# Altium footprint library International Rectifier Footprints.PcbLib: 101 footprints (part 2 of 7)
Each footprint in its own frame and in the unit in brackets; x right, y up, seen from the top. Pads: shape width x height; smd on the part's side, far side on the other; paste and mask are expansions set on the pad; w line width, h text height; cw(c..) or ccw(c..) is an arc to the next point about the centre after c.
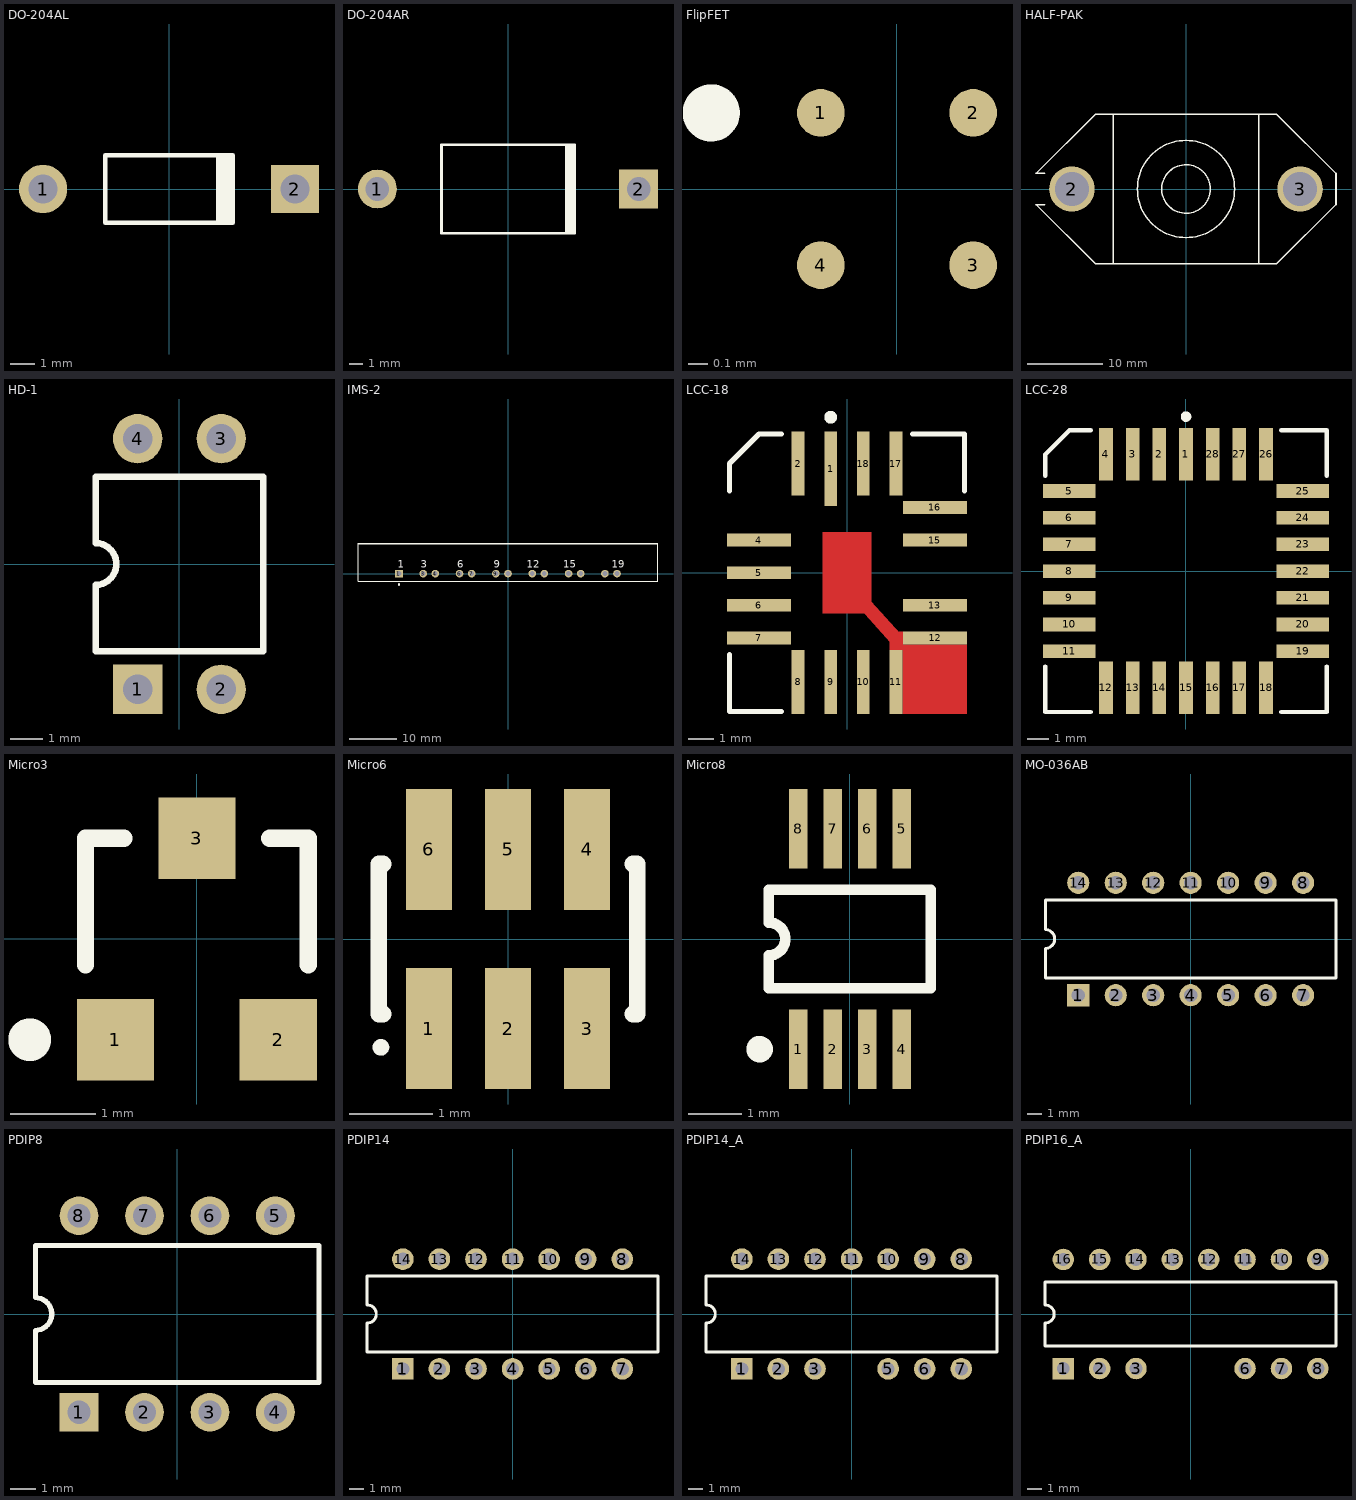
[diagram p1: the footprints below, top view; thin cyan lines are the x and y axes]

## DO-204AL [mm] "Diode, Axial; Body 5.2 x 2.7 mm (LxDia. max), Lead Dia. 0.86 mm (max)"
height 2.7
pads (2):
  round 2 hole 1.2: 1(-5.23,0)
  rect 2x2 hole 1.2: 2(5.23,0)
Top Overlay:
  rectangle: 1.95,-1.4 2.75,1.4
  lines w0.2: 2.65,-1.4 -2.65,-1.4 -2.65,1.4 2.65,1.4

## DO-204AR [mm] "Diode, Axial; Body 9.5 x 6.4 mm (LxDia. max), Lead Dia. 1.32 mm (max)"
height 6.4
pads (2):
  round 2.8 hole 1.7: 1(-9.42,0)
  rect 2.8x2.8 hole 1.7: 2(9.42,0)
Top Overlay:
  rectangle: 4.1,-3.2 4.9,3.2
  lines w0.2: 4.8,-3.2 -4.8,-3.2 -4.8,3.2 4.8,3.2

## FlipFET [mm] "FlipFET; 4 Balls; Body 1.5 x1.5 x 0.8 (LxWxH)"
height 0.762
pads (4):
  round 0.25 smd: 1(-0.4,0.4) 2(0.4,0.4) 3(0.4,-0.4) 4(-0.4,-0.4)
Top Overlay:
  circle w0.15: c-0.975,0.4 r0.075

## HALF-PAK [mm] "Half-Pak Module; 1 Lug Terminal, 1 Base Terminal; Body 39.62 x 19.69 x 15.11 mm (LxWxH max)"
height 15.11
pads (2):
  round 6 hole 4.5: 2(-15.075,0) 3(15.075,0)
Top Overlay:
  circle w0.2: c0,0 r3.207
  circle w0.2: c0,0 r6.415
  lines w0.2: -18.67,-2.055 -19.81,-2.055 -11.988,-9.845 11.988,-9.845 19.81,-2.055 19.81,2.055 11.988,9.845 -11.988,9.845 -19.81,2.055 -18.67,2.055 ; -9.59,-9.845 -9.59,9.845 ; 9.59,-9.845 9.59,9.845

## HD-1 [mm] "DIP; 4 Leads; Row Spacing 7.62 mm; Pitch 2.54 mm"
height 4.57
pads (4):
  rect 1.5x1.5 hole 0.9: 1(-1.27,-3.81)
  round 1.5 hole 0.9: 2(1.27,-3.81) 3(1.27,3.81) 4(-1.27,3.81)
Top Overlay:
  lines w0.2: -2.55,-2.65 2.55,-2.65 2.55,2.65 -2.55,2.65 -2.55,0.635 cw(c-2.55,0) -2.55,-0.635 -2.55,-2.65

## IMS-2 [mm] "SIP; 19 Leads (6 Absent); Body 62.4 x 7.9 mm (LxW typ); Pitch 2.54 mm"
height 26
pads (13):
  rect 1.6x1.6 hole 1: 1(-22.86,0)
  round 1.6 hole 1: 3(-17.78,0) 4(-15.24,0) 6(-10.16,0) 7(-7.62,0) 9(-2.54,0) 10(0,0) 12(5.08,0) 13(7.62,0) 15(12.7,0) 16(15.24,0) 18(20.32,0) 19(22.86,0)
Top Overlay:
  circle w0.25: c-22.86,-2.3 r0.125
  rectangle: -31.45,6.05 31.45,6.45
  lines w0.2: -31.35,6.35 -31.35,-1.65 31.35,-1.65 31.35,6.35
  text "1" at -23.11,1.175 h1.5
  text "19" at 21.735,1.175 h1.5
  text "3" at -18.28,1.175 h1.5
  text "6" at -10.66,1.175 h1.5
  text "9" at -3.04,1.175 h1.5
  text "12" at 3.955,1.175 h1.5
  text "15" at 11.575,1.175 h1.5

## LCC-18 [mm] "Leadless Chip Carrier; 18 Terminals; Body 7.3 x 9 mm"
height 2.93
pads (16):
  rect 0.5x2.9 smd: 1(-0.635,4.05)
  rect 0.5x2.5 smd: 2(-1.905,4.25) 8(-1.905,-4.25) 9(-0.635,-4.25) 10(0.635,-4.25) 11(1.905,-4.25) 17(1.905,4.25) 18(0.635,4.25)
  rect 2.5x0.5 smd: 4(-3.429,1.27) 5(-3.429,0) 6(-3.429,-1.27) 7(-3.429,-2.54) 12(3.429,-2.54) 13(3.421,-1.27) 15(3.421,1.27) 16(3.421,2.54)
Top Layer:
  rectangle: 2.155,-5.5 4.679,-2.79
  region: 0.954,-1.597 0.954,1.578 -0.951,1.578 -0.951,-1.597
  rectangle: 1.655,-3 2.178,-2.29
  region: 0.93,-1.092 0.532,-1.45 1.683,-2.728 2.081,-2.37
Top Overlay:
  circle w0.25: c-0.634,6.052 r0.125
  lines w0.2: -4.575,-3.19 -4.575,-5.402 -2.555,-5.402 ; -4.575,3.19 -4.575,4.25 -3.429,5.398 -2.555,5.398 ; 2.555,5.398 4.575,5.398 4.574,3.19

## LCC-28 [mm] "Leadless Chip Carrier; 28 Terminals; Body 11.4 x 11.4 mm"
height 2.42
pads (28):
  rect 0.65x2.5 smd: 1(0,5.55) 2(-1.27,5.55) 3(-2.54,5.55) 4(-3.81,5.55) 12(-3.81,-5.55) 13(-2.54,-5.55) 14(-1.27,-5.55) 15(0,-5.55) 16(1.27,-5.55) 17(2.54,-5.55) 18(3.81,-5.55) 26(3.81,5.55) 27(2.54,5.55) 28(1.27,5.55)
  rect 2.5x0.65 smd: 5(-5.55,3.81) 6(-5.55,2.54) 7(-5.55,1.27) 8(-5.55,0) 9(-5.55,-1.27) 10(-5.55,-2.54) 11(-5.55,-3.81) 19(5.55,-3.81) 20(5.55,-2.54) 21(5.55,-1.27) 22(5.55,0) 23(5.55,1.27) 24(5.55,2.54) 25(5.55,3.81)
Top Overlay:
  circle w0.25: c0,7.35 r0.125
  lines w0.2: -6.7,-4.535 -6.7,-6.7 -4.535,-6.7 ; -6.7,4.535 -6.7,5.55 -5.55,6.7 ; -5.485,6.7 -4.535,6.7 ; 4.535,-6.7 6.7,-6.7 6.7,-4.535 ; 4.535,6.7 6.7,6.7 6.7,4.535

## Micro3 [mm] "SOT-23; 3 Leads; Body 3.0 x 2.5 mm, inc. leads (LxW max)"
height 1.12
pads (3):
  rect 0.9x0.95 smd: 1(-0.95,-1.175) 2(0.95,-1.175) 3(0,1.175)
Top Overlay:
  circle w0.25: c-1.95,-1.175 r0.125
  lines w0.2: -1.3,-0.3 -1.3,1.175 -0.85,1.175 ; 0.85,1.175 1.3,1.175 1.3,-0.3

## Micro6 [mm] "SOT-457/SC-74; 6 Leads; Body 3 x 3 mm, inc. leads (LxW max)"
height 1.45
pads (6):
  rect 0.55x1.45 smd: 1(-0.95,-1.075) 2(0,-1.075) 3(0.95,-1.075) 4(0.95,1.075) 5(0,1.075) 6(-0.95,1.075)
Top Overlay:
  circle w0.1: c-1.525,-1.3 r0.05
  lines w0.2: -1.5,-0.9 -1.55,-0.9 -1.55,0.9 -1.5,0.9 ; 1.5,-0.9 1.55,-0.9 1.55,0.9 1.5,0.9

## Micro8 [mm] "Shrink Small Outline; 8 Leads; Body Width 3 mm; Pitch 0.65 mm"
height 1.11
pads (8):
  rect 0.35x1.5 smd: 1(-0.975,-2.075) 2(-0.325,-2.075) 3(0.325,-2.075) 4(0.975,-2.075) 5(0.975,2.075) 6(0.325,2.075) 7(-0.325,2.075) 8(-0.975,2.075)
Top Overlay:
  circle w0.25: c-1.7,-2.075 r0.125
  lines w0.2: -1.525,-0.925 -1.525,-0.308 ccw(c-1.525,0) -1.525,0.308 -1.525,0.925 1.525,0.925 1.525,-0.925 -1.525,-0.925

## MO-036AB [mm] "DIP; 14 Leads; Row Spacing 7.62 mm; Pitch 2.54 mm"
height 4.45
pads (14):
  rect 1.5x1.5 hole 0.9: 1(-7.62,-3.81)
  round 1.5 hole 0.9: 2(-5.08,-3.81) 3(-2.54,-3.81) 4(0,-3.81) 5(2.54,-3.81) 6(5.08,-3.81) 7(7.62,-3.81) 8(7.62,3.81) 9(5.08,3.81) 10(2.54,3.81) 11(0,3.81) 12(-2.54,3.81) 13(-5.08,3.81) 14(-7.62,3.81)
Top Overlay:
  lines w0.2: -9.85,-2.65 -9.85,-0.635 ccw(c-9.85,0) -9.85,0.635 -9.85,2.65 9.85,2.65 9.85,-2.65 -9.85,-2.65

## PDIP8 [mm] "DIP; 8 Leads; Row Spacing 7.62 mm; Pitch 2.54 mm"
height 5.33
pads (8):
  rect 1.5x1.5 hole 0.9: 1(-3.81,-3.81)
  round 1.5 hole 0.9: 2(-1.27,-3.81) 3(1.27,-3.81) 4(3.81,-3.81) 5(3.81,3.81) 6(1.27,3.81) 7(-1.27,3.81) 8(-3.81,3.81)
Top Overlay:
  lines w0.2: -5.5,-2.65 -5.5,-0.635 ccw(c-5.5,0) -5.5,0.635 -5.5,2.65 5.5,2.65 5.5,-2.65 -5.5,-2.65

## PDIP14 [mm] "DIP; 14 Leads; Row Spacing 7.62 mm; Pitch 2.54 mm"
height 5.33
pads (14):
  rect 1.5x1.5 hole 0.9: 1(-7.62,-3.81)
  round 1.5 hole 0.9: 2(-5.08,-3.81) 3(-2.54,-3.81) 4(0,-3.81) 5(2.54,-3.81) 6(5.08,-3.81) 7(7.62,-3.81) 8(7.62,3.81) 9(5.08,3.81) 10(2.54,3.81) 11(0,3.81) 12(-2.54,3.81) 13(-5.08,3.81) 14(-7.62,3.81)
Top Overlay:
  lines w0.2: -10.1,-2.65 -10.1,-0.635 ccw(c-10.1,0) -10.1,0.635 -10.1,2.65 10.1,2.65 10.1,-2.65 -10.1,-2.65

## PDIP14_A [mm] "DIP; 14 Leads (1 Absent); Row Spacing 7.62 mm; Pitch 2.54 mm"
height 5.33
pads (13):
  rect 1.5x1.5 hole 0.9: 1(-7.62,-3.81)
  round 1.5 hole 0.9: 2(-5.08,-3.81) 3(-2.54,-3.81) 5(2.54,-3.81) 6(5.08,-3.81) 7(7.62,-3.81) 8(7.62,3.81) 9(5.08,3.81) 10(2.54,3.81) 11(0,3.81) 12(-2.54,3.81) 13(-5.08,3.81) 14(-7.62,3.81)
Top Overlay:
  lines w0.2: -10.1,-2.65 10.1,-2.65 10.1,2.65 -10.1,2.65 -10.1,0.635 cw(c-10.1,0) -10.1,-0.635 -10.1,-2.65

## PDIP16_A [mm] "DIP; 16 Leads (2 Absent); Row Spacing 7.62 mm; Pitch 2.54 mm"
height 5.33
pads (14):
  rect 1.5x1.5 hole 0.9: 1(-8.89,-3.81)
  round 1.5 hole 0.9: 2(-6.35,-3.81) 3(-3.81,-3.81) 6(3.81,-3.81) 7(6.35,-3.81) 8(8.89,-3.81) 9(8.89,3.81) 10(6.35,3.81) 11(3.81,3.81) 12(1.27,3.81) 13(-1.27,3.81) 14(-3.81,3.81) 15(-6.35,3.81) 16(-8.89,3.81)
Top Overlay:
  lines w0.2: -10.16,-2.225 -10.16,-0.635 ccw(c-10.16,0) -10.16,0.635 -10.16,2.225 10.16,2.225 10.16,-2.225 -10.16,-2.225